# Altium schematic symbol library DS1024-2_10R2.SchLib: 1 symbol
Pins are listed as number, name and electrical type; pins without a type are passive.

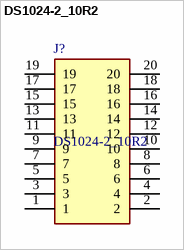
[diagram p0: symbol DS1024-2_10R2]

## DS1024-2_10R2
designator J?
Socket; pin strips; female; PIN: 20; angled 90; 2.54mm; THT; 2x10; Manufacturer_Name: Connfly; Manufacturer_Part_Number: DS1024-2*10R2; Geometry.Height: 5.25mm; Mouser Part Number: *; Mouser Price/Stock: *; Arrow Part Number: *; Arrow Price/Stock: *; Datasheet Link: https://en.connfly.com/static/upload/file/pdf/DS1024.pdf
footprint DS1024210R2
pins: 1, 2, 3, 4, 5, 6, 7, 8, 9, 10, 11, 12, 13, 14, 15, 16, 17, 18, 19, 20